# Altium schematic symbol library Tesla_Coil_Parts2.SchLib: 11 symbols
Pins are listed as number, name and electrical type; pins without a type are passive.

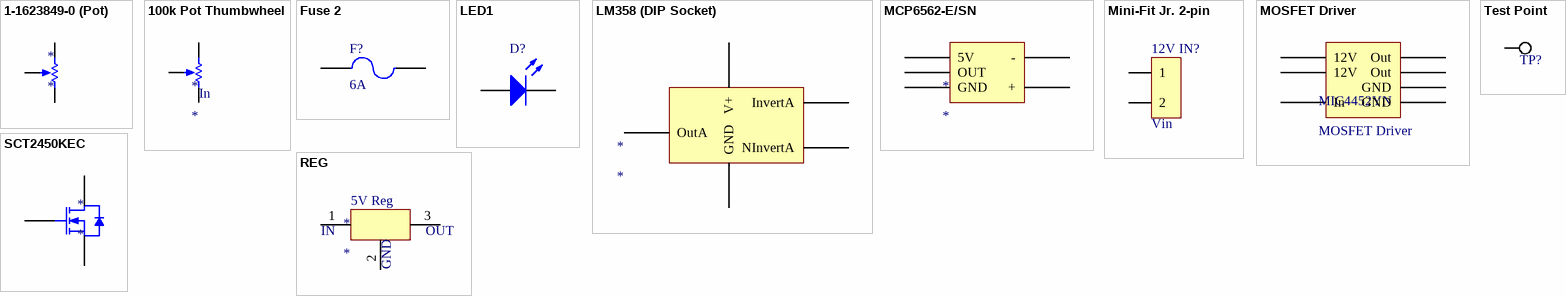
[diagram p0: symbols 1-1623849-0 (Pot) to Test Point]

## 1-1623849-0 (Pot)
designator *
footprint 1-1623849-0
pins: 1 TOP, 2 TAP, 3 BOT

## 100k Pot Thumbwheel
designator *
footprint 10K Pot 3352T
pins: 1 In, 2 TAP, 3 TOP

## Fuse 2
designator F?, comment 6A
Fuse; Published: 8-Jun-2000; LatestRevisionDate: 17-Jul-2002; LatestRevisionNote: Re-released for DXP Platform.; PackageReference: PIN-W2/E2.8; Publisher: Altium Limited; PackageDescription: Thru-Hole; 2 Leads
footprint Blade Fuse
pins: 1, 2

## LED1
designator D?
Typical RED GaAs LED; Published: 8-Jun-2000; LatestRevisionDate: 08-Jul-2005; LatestRevisionNote: Mech Layer 1 removed.; PackageReference: LED-1; Publisher: Altium Limited
footprint LED-1 (Typical RED GaAs LED; 2 Leads)
simulation model LED1 (Diode)
pins: 1 A, 2 K

## LM358 (DIP Socket)
designator *
footprint 3M5473-ND-
pins: 1 OutA, 2 InvertA, 3 NInvertA, 4 GND, 8 V+

## MCP6562-E/SN
designator *
footprint MCP6562 (1.8V Output Comparator)
pins: 1 OUT, 2 -, 3 +, 4 GND, 8 5V

## Mini-Fit Jr. 2-pin
designator 12V IN?, comment Vin
Mini-Fit Jr. 2-pin Right Angle; Manufacturer: Molex Inc; Manufacturer Part Number: 0039300020; Connector Type: Header, Shrouded; Number of Positions: 2; Number of Positions Loaded: All; Row Spacing: 0.165" (4.20mm); Ordering: http://search.digikey.com/scripts/DkSearch/dksus.dll?Detail&name=WM1351-ND; Datasheet: http://www.molex.com/pdm_docs/sd/039301020_sd.pdf; Supplier 1: Digi-Key; RoHS: RoHS Compliant; Category: Connectors, Interconnects; Stock 1: 371; Pricing 1: 1=0.77, 10=0.674, 50=0.6078, 100=0.5815, 250=0.5286, 500=0.47574, 1000=0.42288, 2500=0.38324, 5000=0.37002 (USD); Contact Type: Male Pin; Pitch: -; Number of Rows: 2; Contact Mating Length: -; Mounting Type: Through Hole, Right Angle; Termination: Solder; Fastening Type: Locking Ramp; Features: Board Lock; Contact Finish: Tin; Contact Finish Thickness: 200µin (5.08µm); Color: Natural; Packaging: Tray; ComponentLink1URL: http://www.molex.com/pdm_docs/sd/039300020_sd.pdf; ComponentLink1Description: http://www.molex.com/pdm_docs/sd/039300020_sd.pdf; Supplier Part Number 1: WM21351-ND
footprint Mini-Fit Jr. 2
pins: 1, 2

## MOSFET Driver
designator MIC4452YN
footprint MIC441/44
pins: 1 12V, 2 In, 5 GND, 6 Out, 6 GND, 7 Out, 8 12V

## REG
designator *
footprint 5V REG
pins: 1 "ON/OFF", 2 "ON/OFF", 3 "ON/OFF"
text: 5V Reg; IN; OUT; GND

## SCT2450KEC
designator *
footprint SCT2450KEC (Power MOSFET 10A, 1200V)
pins: 1 "ON/OFF", 2 "ON/OFF", 3 "ON/OFF"

## Test Point
designator TP?  (value not drawn)
footprint Test Point (Round Pad for Probing)
pins: 1